# Altium footprint library PcbLib1.PcbLib: 14 footprints
Each footprint in its own frame and in the unit in brackets; x right, y up, seen from the top. Pads: shape width x height; smd on the part's side, far side on the other; paste and mask are expansions set on the pad; w line width, h text height; cw(c..) or ccw(c..) is an arc to the next point about the centre after c.
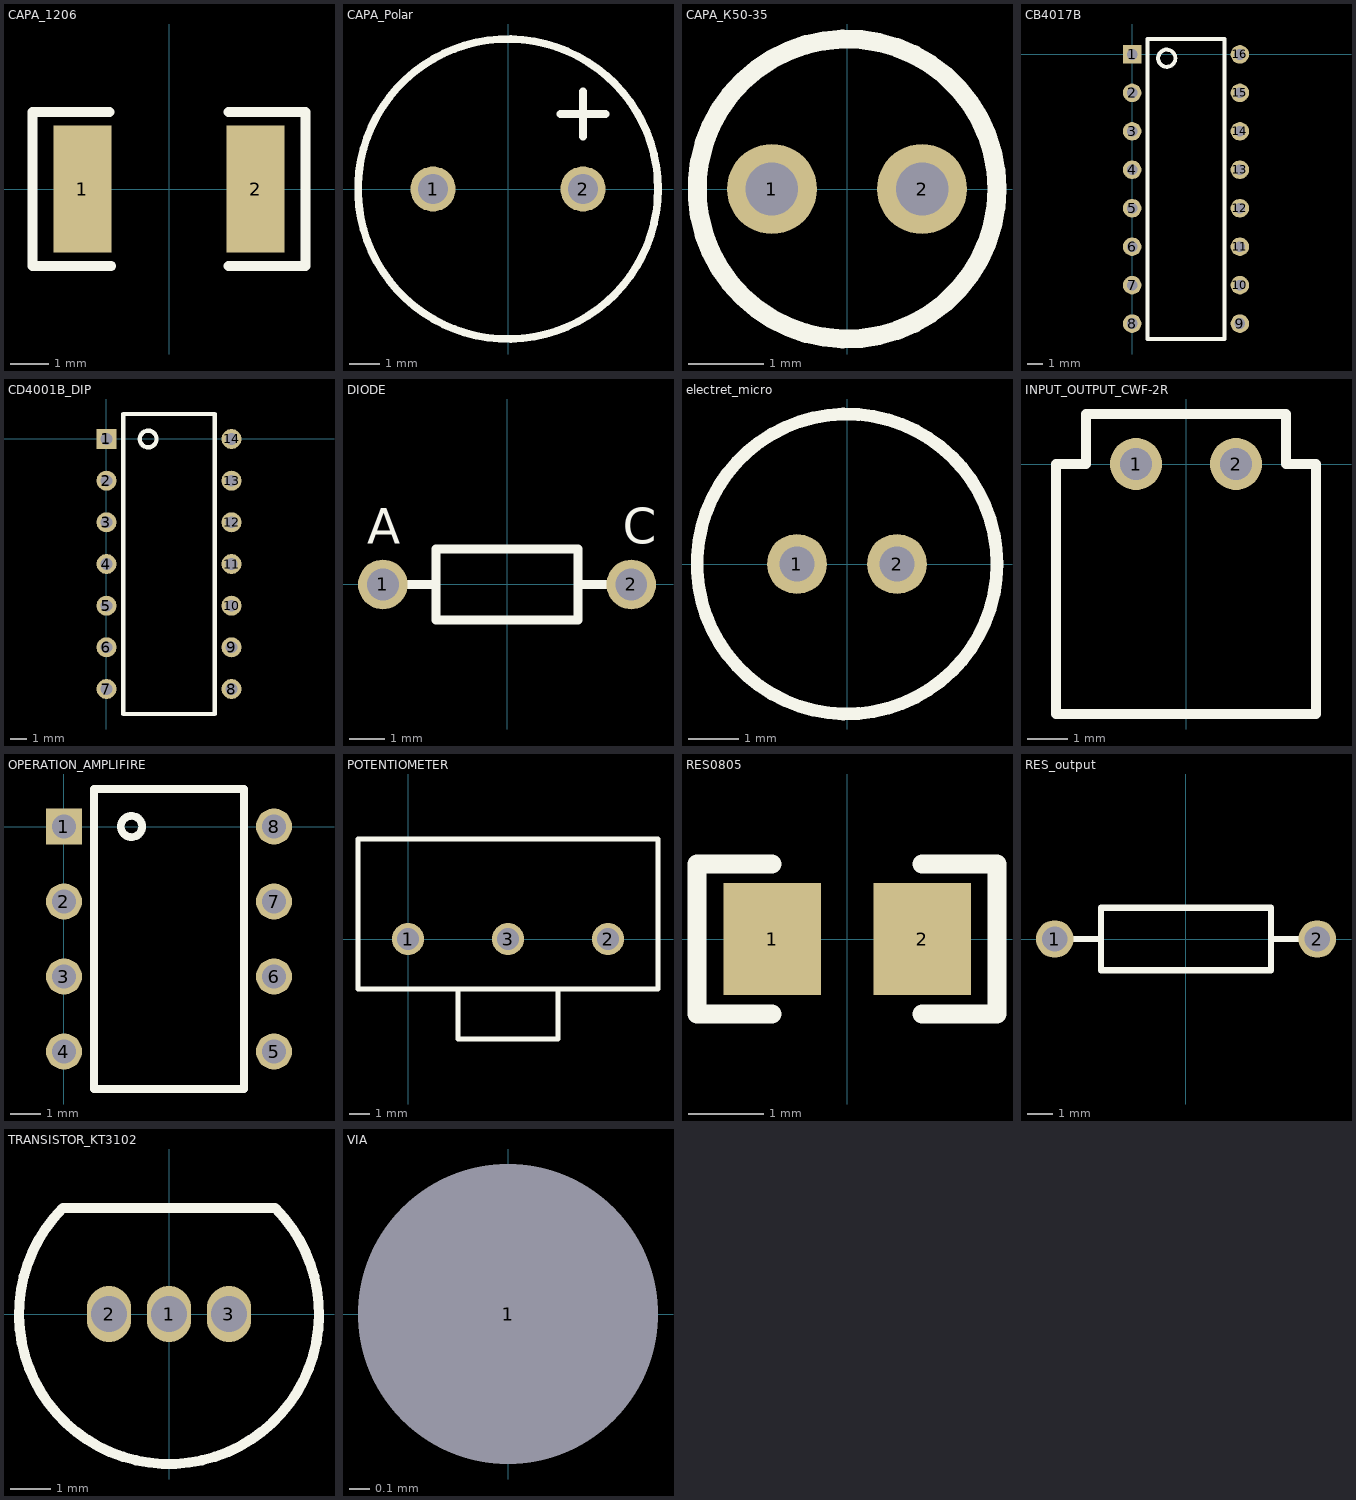
[diagram p0: the footprints below, top view; thin cyan lines are the x and y axes]

## CAPA_1206 [mm]
pads (2):
  rect 1.5x3.3 smd: 1(-2.25,0) 2(2.25,0)
Top Overlay:
  lines w0.254: -1.55,2 -3.55,2 -3.55,-2 -1.5,-2 ; 1.55,-2 3.55,-2 3.55,2 1.55,2

## CAPA_Polar [mm]
pads (2):
  round 1.5 hole 1: 1(-2.5,0) 2(2.5,0)
Top Overlay:
  circle w0.254: c0,0 r5
  lines w0.254: 1.75,2.5 3.25,2.5 ; 2.5,1.75 2.5,3.25

## CAPA_К50-35 [mm]
pads (2):
  round 1.2 hole 0.7: 1(-1,0) 2(1,0)
Top Overlay:
  circle w0.254: c0,0 r2

## CB4017B [mm]
pads (16):
  rect 1.2x1.2 hole 0.7: 1(0,0)
  round 1.2 hole 0.7: 2(0,-2.5) 3(0,-5) 4(0,-7.5) 5(0,-10) 6(0,-12.5) 7(0,-15) 8(0,-17.5) 9(7,-17.5) 10(7,-15) 11(7,-12.5) 12(7,-10) 13(7,-7.5) 14(7,-5) 15(7,-2.5) 16(7,0)
Top Overlay:
  circle w0.254: c2.25,-0.25 r0.559
  lines w0.254: 1,-18.5 6,-18.5 6,1 1,1 1,-18.5

## CD4001B_DIP [mm]
pads (14):
  rect 1.2x1.2 hole 0.7: 1(0,0)
  round 1.2 hole 0.7: 2(0,-2.5) 3(0,-5) 4(0,-7.5) 5(0,-10) 6(0,-12.5) 7(0,-15) 8(7.5,-15) 9(7.5,-12.5) 10(7.5,-10) 11(7.5,-7.5) 12(7.5,-5) 13(7.5,-2.5) 14(7.5,0)
Top Overlay:
  circle w0.254: c2.5,0 r0.5
  lines w0.254: 1,-16.5 1,1.5 6.5,1.5 6.5,-16.5 1,-16.5

## DIODE [mm]
pads (2):
  round 1.4 hole 0.9: 1(-3.5,0) 2(3.5,0)
Top Overlay:
  lines w0.254: -3.5,0 -2,0 ; 2,0 3.5,0 ; -2,-1 2,-1 2,1 0,1 -2,1 -2,-1
  text "A" at -3.946,1.154 h1
  text "C" at 3.254,1.154 h1

## electret_micro [mm]
pads (2):
  round 1.2 hole 0.7: 1(-1,0) 2(1,0)
Top Overlay:
  circle w0.254: c0,0 r3

## INPUT_OUTPUT_CWF-2R [mm]
pads (2):
  round 1.3 hole 0.8: 1(-1.25,0) 2(1.25,0)
Top Overlay:
  lines w0.254: -3.25,-6.25 -3.25,0 -2.5,0 -2.5,1.25 2.5,1.25 2.5,0 3.25,0 3.25,-6.25 -3.25,-6.25

## OPERATION_AMPLIFIRE [mm]
pads (8):
  rect 1.2x1.2 hole 0.8: 1(0,0)
  round 1.2 hole 0.8: 2(0,-2.5) 3(0,-5) 4(0,-7.5) 5(7,-7.5) 6(7,-5) 7(7,-2.5) 8(7,0)
Top Overlay:
  circle w0.254: c2.25,0 r0.354
  lines w0.254: 1,-8.75 6,-8.75 6,1.25 1,1.25 1,-8.75

## POTENTIOMETER [mm]
pads (3):
  round 1.6 hole 1.1: 1(0,0) 2(10,0) 3(5,0)
Top Overlay:
  lines w0.254: 2.5,-2.5 2.5,-5 7.5,-5 7.5,-2.5 ; -2.5,-2.5 -2.5,5 12.5,5 12.5,-2.5 -2.5,-2.5

## RES0805 [mm]
pads (2):
  rect 1.3x1.5 smd: 1(-1,0) 2(1,0)
Top Overlay:
  lines w0.254: -1,-1 -2,-1 -2,1 -1,1 ; 1,-1 2,-1 2,1 1,1

## RES_output [mm]
pads (2):
  round 1.5 hole 1: 1(-5.25,0) 2(5.25,0)
Top Overlay:
  lines w0.254: -5.25,0 -3.4,0 ; 3.4,0 5.25,0 ; -3.4,-1.25 -3.4,1.25 0,1.25 0.75,1.25 3.4,1.25 3.4,-1.25 0,-1.25 -3.4,-1.25

## TRANSISTOR_KT3102 [mm]
pads (3):
  oval 1.1x1.4 hole 0.9: 1(0,0) 2(-1.5,0) 3(1.5,0)
Top Overlay:
  lines w0.254: -2.652,2.652 ccw(c0,0) 2.652,2.652 -2.652,2.652

## VIA [mm]
pads (1):
  round 1 hole 1.5: 1(0,0)